# EAGLE library part FIELDS_LINK (library ElectricNoodleBox)
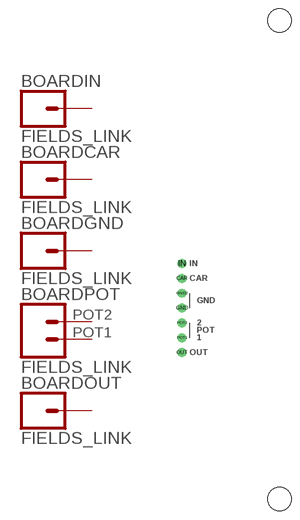
[diagram p32: symbol with the pads of FIELDS; footprint FIELDS]

Designator prefix BOARD; gates IN=CONN_01 CAR=CONN_01 GND=CONN_01 POT=CONN_02 OUT=CONN_01

## FIELDS_LINK  [FIELDS]
CAR  CAR:1  pas
GND  GND:1  pas
GND2  GND:1  pas
IN  IN:1  pas
OUT  OUT:1  pas
POT1  POT:1  pas
POT2  POT:2  pas

## Footprint FIELDS (pad centres in mm)
drill 1.016: CAR 2.54,50.8; GND 2.54,45.72; GND2 2.54,48.26; IN 2.54,53.34; OUT 2.54,38.1; POT1 2.54,40.64; POT2 2.54,43.18
hole 4 at 19.25,13
hole 4 at 19.25,95